# EAGLE library part ESP-03 (library esp8266modules)
ESP8266 Wifi Module ESP-03
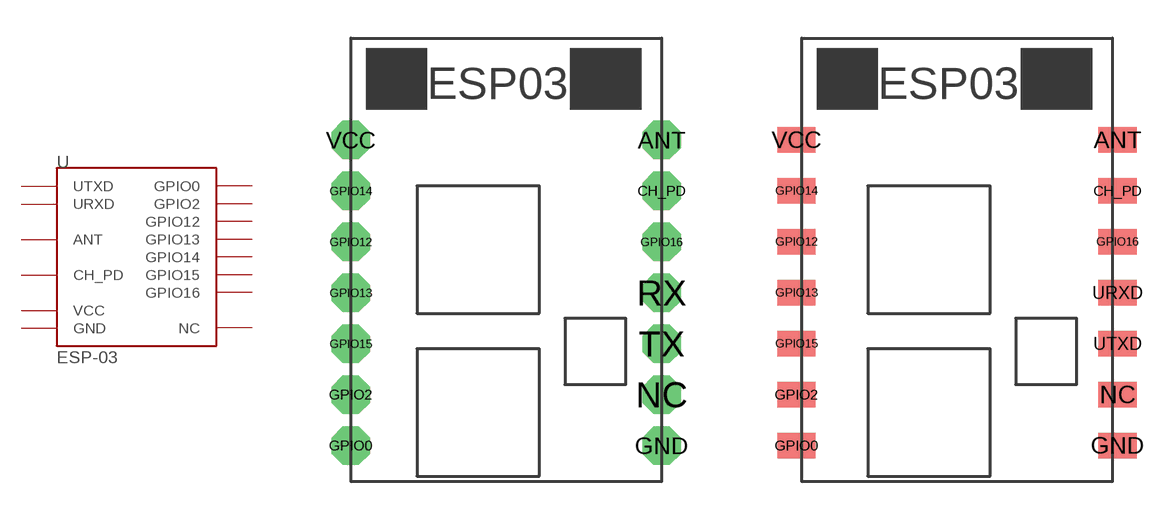
[diagram p2: symbol with the pads of ESP-03_POGO; footprints ESP-03_POGO, ESP-03_SMD]

Designator prefix U

## ESP-03_POGO (DIMENSIONS: 17.3 x 12.1 mm; PINS: 14; PITCH: 0.078" / 2 mm)  [ESP-03_POGO]
ANT  ANT
CH_PD  CH_PD
GND  GND
GPIO0  GPIO0
GPIO2  GPIO2
GPIO12  GPIO12
GPIO13  GPIO13
GPIO14  GPIO14
GPIO15  GPIO15
GPIO16  GPIO16
NC  NC
RX  URXD
TX  UTXD
VCC  VCC

## ESP-03  [ESP-03_SMD]
ANT  ANT
CH_PD  CH_PD
GND  GND
GPIO0  GPIO0
GPIO2  GPIO2
GPIO12  GPIO12
GPIO13  GPIO13
GPIO14  GPIO14
GPIO15  GPIO15
GPIO16  GPIO16
NC  NC
URXD  URXD
UTXD  UTXD
VCC  VCC

## Footprint ESP-03_POGO (pad centres in mm)
ESP8266 Modules ESP-03
drill 1 octagon: ANT 6.1,4.8; CH_PD 6.1,2.8; GND 6.1,-7.2; GPIO0 -6.1,-7.2; GPIO2 -6.1,-5.2; GPIO12 -6.1,0.8; GPIO13 -6.1,-1.2; GPIO14 -6.1,2.8; GPIO15 -6.1,-3.2; GPIO16 6.1,0.8; NC 6.1,-5.2; RX 6.1,-1.2; TX 6.1,-3.2; VCC -6.1,4.8

## Footprint ESP-03_SMD (pad centres in mm)
ESP8266 Modules ESP-03
smd 1.5 x 1: ANT 6.3,4.8; CH_PD 6.3,2.8; GND 6.3,-7.2; GPIO0 -6.3,-7.2; GPIO2 -6.3,-5.2; GPIO12 -6.3,0.8; GPIO13 -6.3,-1.2; GPIO14 -6.3,2.8; GPIO15 -6.3,-3.2; GPIO16 6.3,0.8; NC 6.3,-5.2; URXD 6.3,-1.2; UTXD 6.3,-3.2; VCC -6.3,4.8